# Altium footprint library IPL1-103-01-YYY-S-K.PcbLib: 1 footprints
Each footprint in its own frame and in the unit in brackets; x right, y up, seen from the top. Pads: shape width x height; smd on the part's side, far side on the other; paste and mask are expansions set on the pad; w line width, h text height; cw(c..) or ccw(c..) is an arc to the next point about the centre after c.
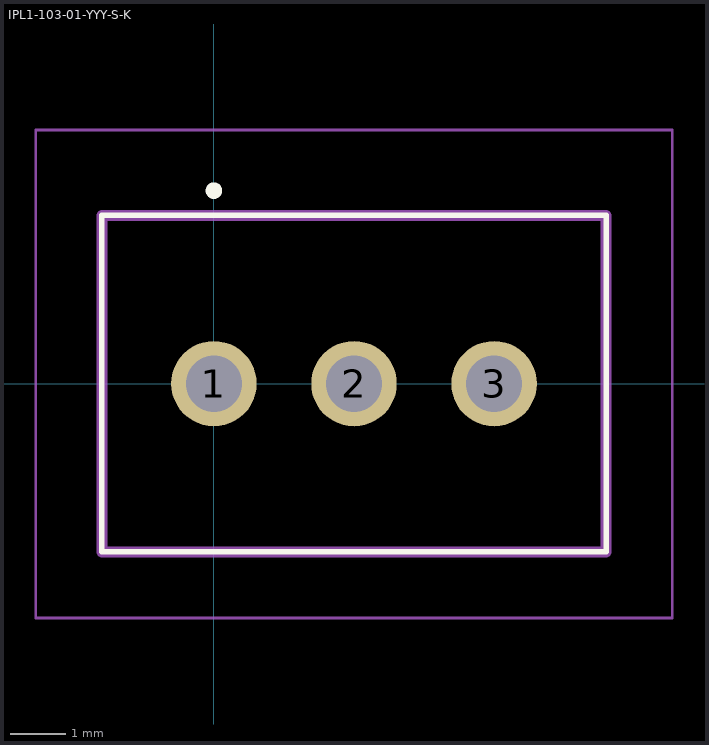
[diagram p0: the footprint, top view; thin cyan lines are the x and y axes]

## IPL1-103-01-YYY-S-K [mm]
pads (3):
  round 1.55 hole 1.02: 1(0,0) 2(2.54,0) 3(5.08,0)
Top Overlay:
  circle w0.2: c0,3.5 r0.05
  lines w0.1: -2.03,-3.05 -2.03,3.05 7.11,3.05 7.11,-3.05 -2.03,-3.05
Mechanical 13:
  lines w0.2: -2.03,-3.05 -2.03,3.05 7.11,3.05 7.11,-3.05 -2.03,-3.05
Mechanical 15:
  lines w0.05: -3.23,-4.25 -3.23,4.6 8.31,4.6 8.31,-4.25 -3.23,-4.25
3D body "IPL1-103-01-L-S-K.stp": height 8.13, standoff -3.05, extent -2.032,-3.81 7.112,2.794